# Altium footprint library JLCPCB_DIODE_LED_Packages_SMD.PcbLib: 1 footprints
Each footprint in its own frame and in the unit in brackets; x right, y up, seen from the top. Pads: shape width x height; smd on the part's side, far side on the other; paste and mask are expansions set on the pad; w line width, h text height; cw(c..) or ccw(c..) is an arc to the next point about the centre after c.
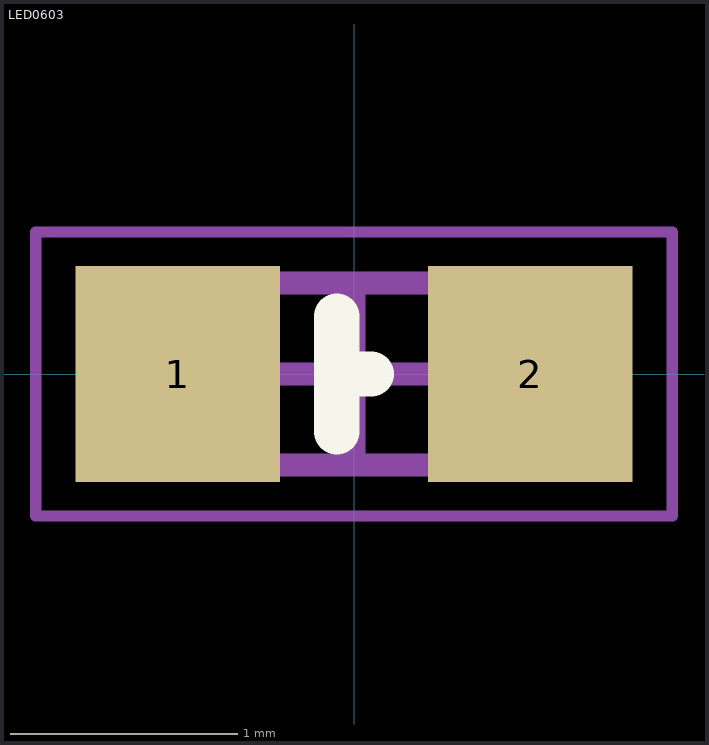
[diagram p0: the footprint, top view; thin cyan lines are the x and y axes]

## LED0603 [mm] "Chip Diode, 2-Leads, Body 1,60x0,80mm, IPC Medium Density"
height 0.6
pads (2):
  rect 0.9x0.95 smd mask+0.055: 1(-0.775,0) 2(0.775,0)
Top Overlay:
  lines w0.2: -0.075,-0.254 -0.075,0.254 ; -0.075,0 0.075,0
Mechanical 13:
  lines w0.1: -0.8,-0.4 0.8,-0.4 0.8,0.4 -0.8,0.4 -0.8,-0.4
Mechanical 15:
  lines w0.05: -1.4,-0.625 1.4,-0.625 1.4,0.625 -1.4,0.625 -1.4,-0.625
  lines w0.1: -0.4,0 0.4,0 ; 0,-0.4 0,0.4
3D body "LED0603.step": height 0.6, standoff 0, extent -0.8,-0.4 0.8,0.4